# Altium schematic symbol library IPB65R150CFDAATMA1.SchLib: 1 symbol
Pins are listed as number, name and electrical type; pins without a type are passive.

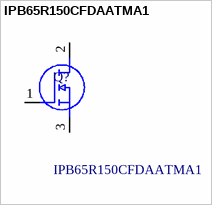
[diagram p0: symbol IPB65R150CFDAATMA1]

## IPB65R150CFDAATMA1
designator Q?
Trans MOSFET N-CH 650V 22.4A Automotive 3-Pin(2+Tab) D2PAK T/R; Manufacturer_Name: Infineon; Geometry.Height: 4.82mm; Mouser Part Number: 726-IPB65R150CFDAATM; Mouser Price/Stock: https://www.mouser.com/Search/Refine.aspx?Keyword=726-IPB65R150CFDAATM; Manufacturer_Part_Number: IPB65R150CFDAATMA1; Datasheet Link: https://componentsearchengine.com/Datasheets/1/IPB65R150CFDAATMA1.pdf
footprint IPB65R150CFDAATMA1
pins: 1 G, 2 D, 3 S